# EAGLE library part ADS7886SDCKR (library ICs)
12 Bit Analog to Digital Converter 1 Input 1 SAR SC-70-6
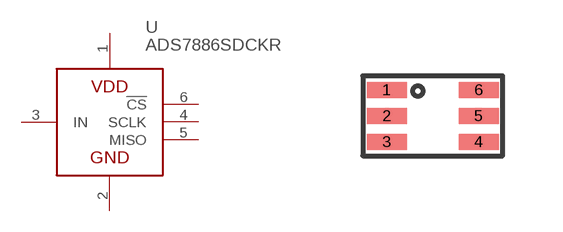
[diagram p292: symbol with the pads of SC70-6; footprint SC70-6]

Designator prefix U

## ADS7886SDCKR (DIGIKEY: ADS7886SDCKR-ND; HEIGHT: 1.1; PRICE_PER: 2.167; VALUE: ADS7886S)  [SC70-6]
1  VDD
2  GND
3  IN
4  SCLK
5  MISO
6  !CS

## Footprint SC70-6 (pad centres in mm)
smd 1 x 0.4: 1 -1.15,0.65; 2 -1.15,0; 3 -1.15,-0.65; 4 1.15,-0.65; 5 1.15,0; 6 1.15,0.65